# Altium footprint library LQH32PN6R8NN0L.PcbLib: 1 footprints
Each footprint in its own frame and in the unit in brackets; x right, y up, seen from the top. Pads: shape width x height; smd on the part's side, far side on the other; paste and mask are expansions set on the pad; w line width, h text height; cw(c..) or ccw(c..) is an arc to the next point about the centre after c.
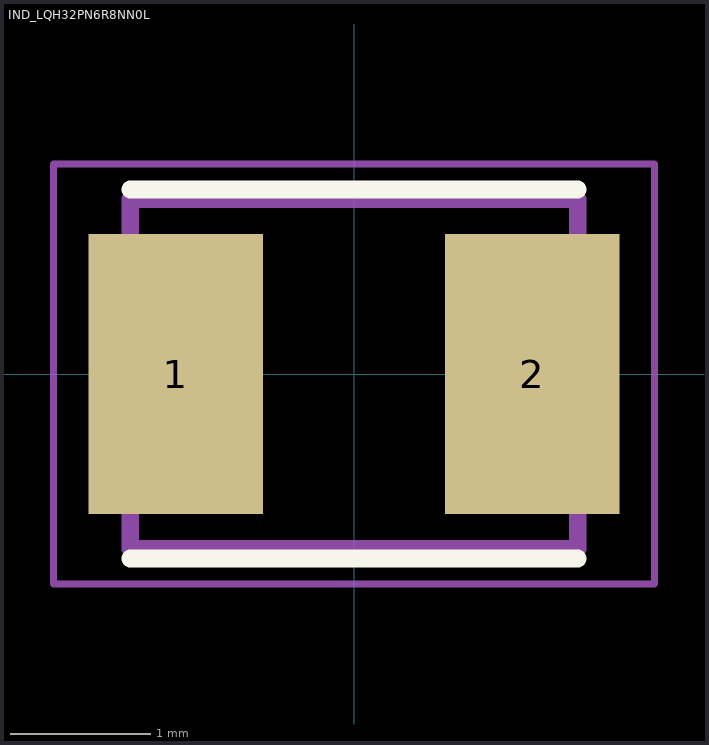
[diagram p0: the footprint, top view; thin cyan lines are the x and y axes]

## IND_LQH32PN6R8NN0L [mm]
pads (2):
  rect 1.25x2 smd: 1(-1.275,0) 2(1.275,0)
Top Overlay:
  lines w0.127: -1.6,-1.32 1.6,-1.32 ; -1.6,1.32 1.6,1.32
Mechanical 13:
  lines w0.127: -1.6,-1.25 -1.6,1.25 1.6,1.25 1.6,-1.25 -1.6,-1.25
Mechanical 15:
  lines w0.05: -2.15,-1.5 -2.15,1.5 2.15,1.5 2.15,-1.5 -2.15,-1.5
3D body "step_temp.STEP": height 1.7, standoff 0, extent -1.6,-1.25 1.6,1.25